# EAGLE library part ITG-3200 (library Sensor)
Single-chip, digital-output, 3-axis MEMS gyro IC optimized for gaming, 3D mice, and 3D remote control applications. Datasheet <https://www.sparkfun.com/datasheets/Sensors/Gyro/PS-ITG-3200-00-01.4.pdf>
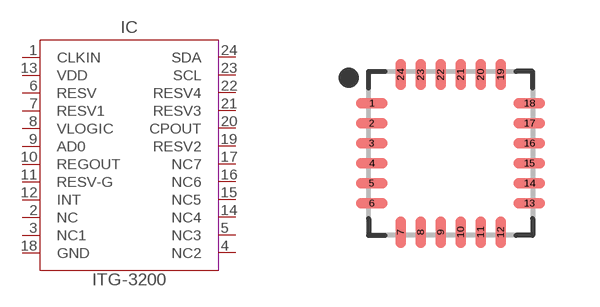
[diagram p0: symbol with the pads of ITG-3200; footprint ITG-3200]

Designator prefix IC

## ITG-3200QFN (CATEGORY: Sensor; DESCRIPTION: Single-chip, digital-output, 3-axis MEMS gyro IC optimized for gaming, 3D mice, and 3D remote control applications.; MANUFACTURER: InvenSense; MPN: ITG-3200; OPERATING_TEMPERATURE: -40°C to +105°C; PART_STATUS: -; ROHS_COMPLIANCE: RoHS COMPLIANT; SUBCATEGORY: Gyroscope; VALUE: ITG-3200)  [ITG-3200]
1  CLKIN
2  NC
3  NC1
4  NC2
5  NC3
6  RESV
7  RESV1
8  VLOGIC
9  AD0
10  REGOUT
11  RESV-G
12  INT
13  VDD
14  NC4
15  NC5
16  NC6
17  NC7
18  GND
19  RESV2
20  CPOUT
21  RESV3
22  RESV4
23  SCL
24  SDA

## Footprint ITG-3200 (pad centres in mm)
24-QFN, 0.50 mm pitch, 4.00 X 4.00 X 0.95 mm body 24-pin QFN package with 0.50 mm pitch with body size 4.00 X 4.00 X 0.95 mm
smd 0.788 x 0.264: 1 -1.971,1.25; 2 -1.971,0.75; 3 -1.971,0.25; 4 -1.971,-0.25; 5 -1.971,-0.75; 6 -1.971,-1.25; 13 1.971,-1.25; 14 1.971,-0.75; 15 1.971,-0.25; 16 1.971,0.25; 17 1.971,0.75; 18 1.971,1.25
smd 0.264 x 0.788: 7 -1.25,-1.971; 8 -0.75,-1.971; 9 -0.25,-1.971; 10 0.25,-1.971; 11 0.75,-1.971; 12 1.25,-1.971; 19 1.25,1.971; 20 0.75,1.971; 21 0.25,1.971; 22 -0.25,1.971; 23 -0.75,1.971; 24 -1.25,1.971